# Altium footprint library OKmePCBLibrary.PcbLib: 197 footprints (part 11 of 13)
Each footprint in its own frame and in the unit in brackets; x right, y up, seen from the top. Pads: shape width x height; smd on the part's side, far side on the other; paste and mask are expansions set on the pad; w line width, h text height; cw(c..) or ccw(c..) is an arc to the next point about the centre after c.
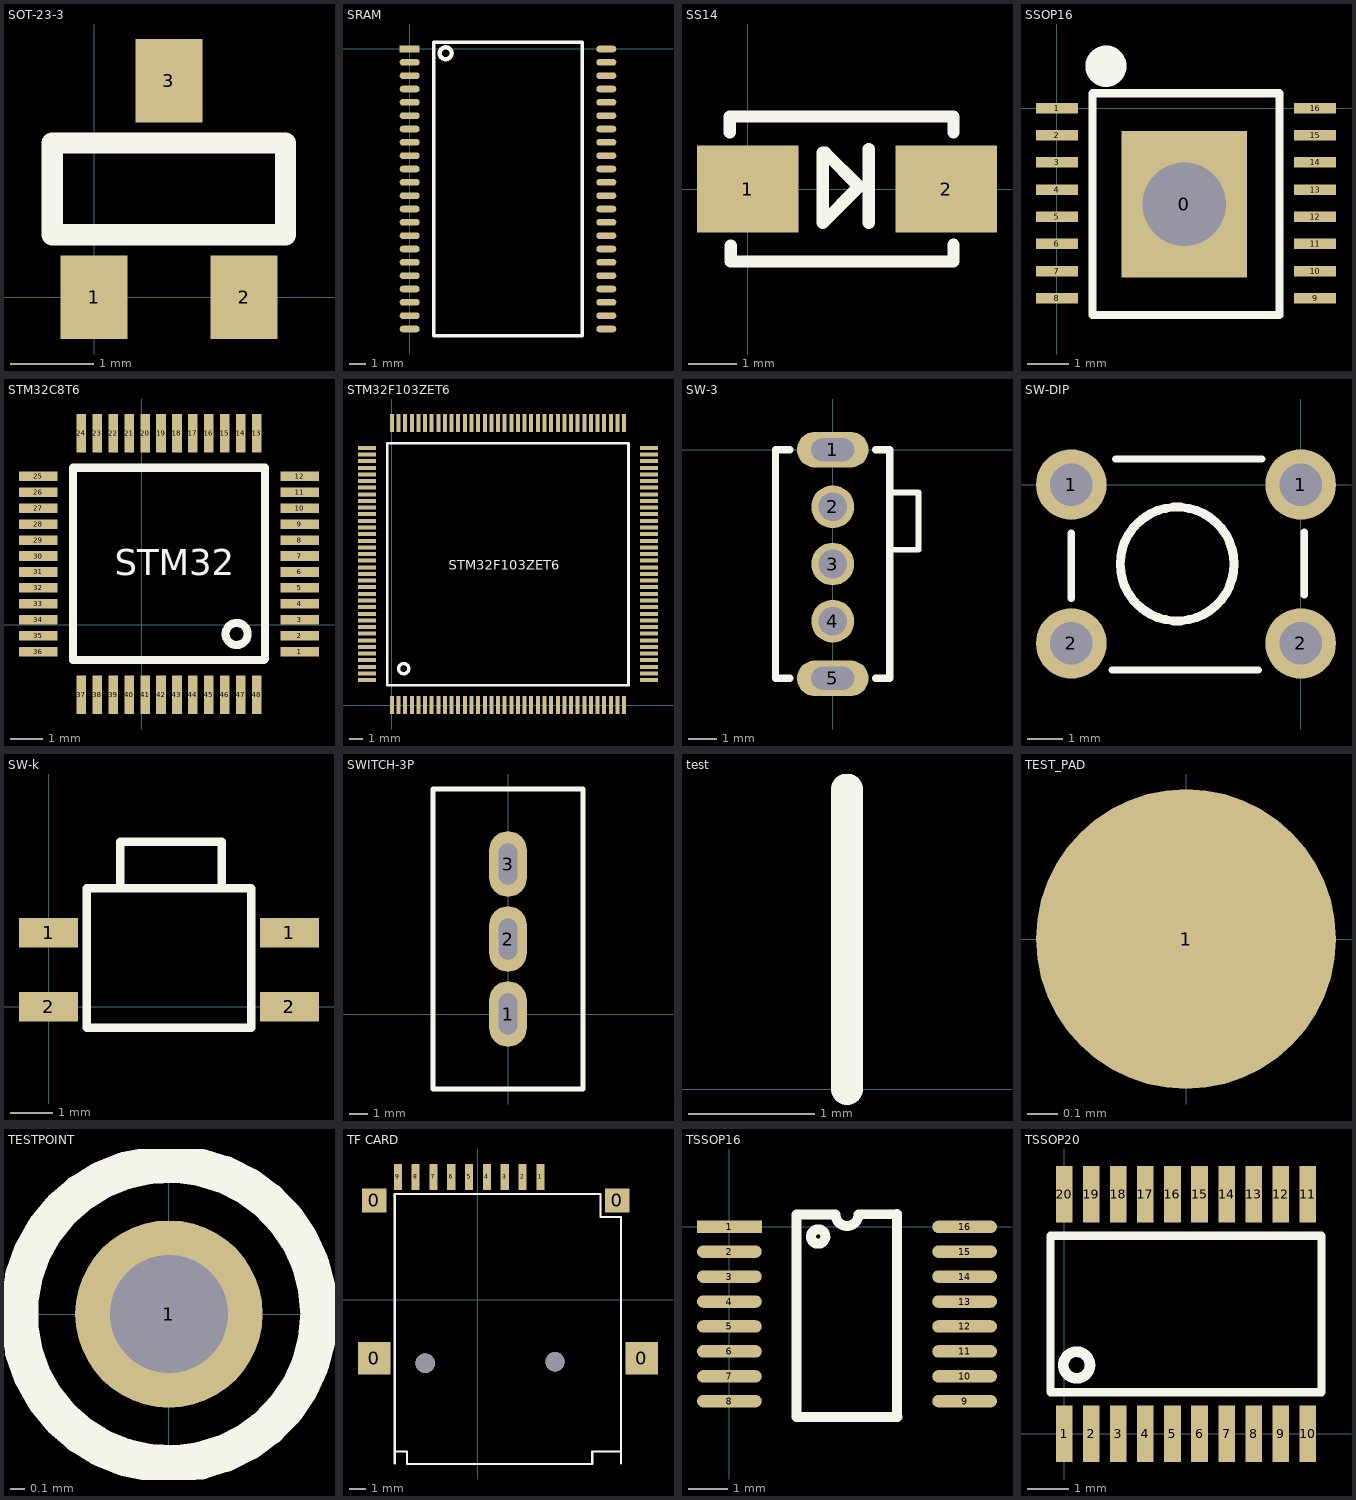
[diagram p10: the footprints below, top view; thin cyan lines are the x and y axes]

## SOT-23-3 [mm]
pads (3):
  rect 0.8x1 smd: 1(0,0) 2(1.8,0) 3(0.9,2.6)
Top Overlay:
  lines w0.254: -0.5,0.75 -0.5,1.85 2.3,1.85 2.3,0.75 -0.5,0.75

## SRAM [mm]
pads (44):
  rect 1.2x0.4 smd: 1(0,0)
  oval 1.2x0.4 smd: 2(0,-0.8) 3(0,-1.6) 4(0,-2.4) 5(0,-3.2) 6(0,-4) 7(0,-4.8) 8(0,-5.6) 9(0,-6.4) 10(0,-7.2) 11(0,-8) 12(0,-8.8) 13(0,-9.6) 14(0,-10.4) 15(0,-11.2) 16(0,-12) 17(0,-12.8) 18(0,-13.6) 19(0,-14.4) 20(0,-15.2) 21(0,-16) 22(0,-16.8) 23(11.8,-16.8) 24(11.8,-16) 25(11.8,-15.2) 26(11.8,-14.4) 27(11.8,-13.6) 28(11.8,-12.8) 29(11.8,-12) 30(11.8,-11.2) 31(11.8,-10.4) 32(11.8,-9.6) 33(11.8,-8.8) 34(11.8,-8) 35(11.8,-7.2) 36(11.8,-6.4) 37(11.8,-5.6) 38(11.8,-4.8) 39(11.8,-4) 40(11.8,-3.2) 41(11.8,-2.4) 42(11.8,-1.6) 43(11.8,-0.8) 44(11.8,0)
Top Overlay:
  circle w0.254: c2.159,-0.254 r0.359
  lines w0.2: 1.435,-17.2 1.435,0.4 10.365,0.4 10.365,-17.2 1.435,-17.2

## SS14 [mm]
pads (2):
  rect 2.1x1.8 smd: 1(0,0) 2(4.1,0)
Top Overlay:
  lines w0.254: -0.375,1.175 -0.375,1.5 4.25,1.5 4.25,1.175 ; -0.35,-1.5 -0.35,-1.175 ; -0.325,-1.5 4.25,-1.5 4.25,-1.15 ; 1.55,0.75 1.55,-0.7 2.3,0.05 ; 1.6,0.75 2.3,0.05 ; 2.5,-0.7 2.5,0.825 ; 2.3,0.05 2.3,0.05

## SSOP16 [mm]
pads (17):
  rect 3x3.5 hole 2: 0(3.05,-2.3)
  rect 1x0.25 smd: 1(0,0) 2(0,-0.65) 3(0,-1.3) 4(0,-1.95) 5(0,-2.6) 6(0,-3.25) 7(0,-3.9) 8(0,-4.55) 9(6.175,-4.55) 10(6.175,-3.9) 11(6.175,-3.25) 12(6.175,-2.6) 13(6.175,-1.95) 14(6.175,-1.3) 15(6.175,-0.65) 16(6.175,0)
Top Overlay:
  circle w0.635: c1.173,1 r0.177
  lines w0.2: 0.85,-4.95 0.85,0.35 5.325,0.35 5.325,-4.95 0.85,-4.95

## STM32C8T6 [mm]
pads (48):
  rect 1.2x0.3 smd: 1(4.95,-0.85) 2(4.95,-0.35) 3(4.95,0.15) 4(4.95,0.65) 5(4.95,1.15) 6(4.95,1.65) 7(4.95,2.15) 8(4.95,2.65) 9(4.95,3.15) 10(4.95,3.65) 11(4.95,4.15) 12(4.95,4.65) 25(-3.25,4.65) 26(-3.25,4.15) 27(-3.25,3.65) 28(-3.25,3.15) 29(-3.25,2.65) 30(-3.25,2.15) 31(-3.25,1.65) 32(-3.25,1.15) 33(-3.25,0.65) 34(-3.25,0.15) 35(-3.25,-0.35) 36(-3.25,-0.85)
  rect 0.3x1.2 smd: 13(3.6,6) 14(3.1,6) 15(2.6,6) 16(2.1,6) 17(1.6,6) 18(1.1,6) 19(0.6,6) 20(0.1,6) 21(-0.4,6) 22(-0.9,6) 23(-1.4,6) 24(-1.9,6) 37(-1.9,-2.2) 38(-1.4,-2.2) 39(-0.9,-2.2) 40(-0.4,-2.2) 41(0.1,-2.2) 42(0.6,-2.2) 43(1.1,-2.2) 44(1.6,-2.2) 45(2.1,-2.2) 46(2.6,-2.2) 47(3.1,-2.2) 48(3.6,-2.2)
Top Overlay:
  circle w0.254: c2.969,-0.291 r0.345
  lines w0.254: -2.162,-1.104 -2.162,4.916 3.858,4.916 3.858,-1.079 3.832,-1.104 -2.162,-1.104
  text "STM32" at -0.85,1.55 h0.81

## STM32F103ZET6 [mm]
pads (144):
  rect 0.3x1.35 smd: 1(0,0) 2(0.5,0) 3(1,0) 4(1.5,0) 5(2,0) 6(2.5,0) 7(3,0) 8(3.5,0) 9(4,0) 10(4.5,0) 11(5,0) 12(5.5,0) 13(6,0) 14(6.5,0) 15(7,0) 16(7.5,0) 17(8,0) 18(8.5,0) 19(9,0) 20(9.5,0) 21(10,0) 22(10.5,0) 23(11,0) 24(11.5,0) 25(12,0) 26(12.5,0) 27(13,0) 28(13.5,0) 29(14,0) 30(14.5,0) 31(15,0) 32(15.5,0) 33(16,0) 34(16.5,0) 35(17,0) 36(17.5,0) 73(17.5,21.25) 74(17,21.25) 75(16.5,21.25) 76(16,21.25) 77(15.5,21.25) 78(15,21.25) 79(14.5,21.25) 80(14,21.25) 81(13.5,21.25) 82(13,21.25) 83(12.5,21.25) 84(12,21.25) 85(11.5,21.25) 86(11,21.25) 87(10.5,21.25) 88(10,21.25) 89(9.5,21.25) 90(9,21.25) 91(8.5,21.25) 92(8,21.25) 93(7.5,21.25) 94(7,21.25) 95(6.5,21.25) 96(6,21.25) 97(5.5,21.25) 98(5,21.25) 99(4.5,21.25) 100(4,21.25) 101(3.5,21.25) 102(3,21.25) 103(2.5,21.25) 104(2,21.25) 105(1.5,21.25) 106(1,21.25) 107(0.5,21.25) 108(0,21.25)
  rect 1.35x0.3 smd: 37(19.375,1.875) 38(19.375,2.375) 39(19.375,2.875) 40(19.375,3.375) 41(19.375,3.875) 42(19.375,4.375) 43(19.375,4.875) 44(19.375,5.375) 45(19.375,5.875) 46(19.375,6.375) 47(19.375,6.875) 48(19.375,7.375) 49(19.375,7.875) 50(19.375,8.375) 51(19.375,8.875) 52(19.375,9.375) 53(19.375,9.875) 54(19.375,10.375) 55(19.375,10.875) 56(19.375,11.375) 57(19.375,11.875) 58(19.375,12.375) 59(19.375,12.875) 60(19.375,13.375) 61(19.375,13.875) 62(19.375,14.375) 63(19.375,14.875) 64(19.375,15.375) 65(19.375,15.875) 66(19.375,16.375) 67(19.375,16.875) 68(19.375,17.375) 69(19.375,17.875) 70(19.375,18.375) 71(19.375,18.875) 72(19.375,19.375) 109(-1.875,19.375) 110(-1.875,18.875) 111(-1.875,18.375) 112(-1.875,17.875) 113(-1.875,17.375) 114(-1.875,16.875) 115(-1.875,16.375) 116(-1.875,15.875) 117(-1.875,15.375) 118(-1.875,14.875) 119(-1.875,14.375) 120(-1.875,13.875) 121(-1.875,13.375) 122(-1.875,12.875) 123(-1.875,12.375) 124(-1.875,11.875) 125(-1.875,11.375) 126(-1.875,10.875) 127(-1.875,10.375) 128(-1.875,9.875) 129(-1.875,9.375) 130(-1.875,8.875) 131(-1.875,8.375) 132(-1.875,7.875) 133(-1.875,7.375) 134(-1.875,6.875) 135(-1.875,6.375) 136(-1.875,5.875) 137(-1.875,5.375) 138(-1.875,4.875) 139(-1.875,4.375) 140(-1.875,3.875) 141(-1.875,3.375) 142(-1.875,2.875) 143(-1.875,2.375) 144(-1.875,1.875)
Top Overlay:
  circle w0.254: c0.889,2.743 r0.384
  lines w0.2: -0.356,1.499 17.831,1.499 17.831,19.71 -0.356,19.71 -0.356,1.499
  text "STM32F103ZET6" at 4.3,10.2 h0.71

## SW-3 [mm]
pads (5):
  oval 2.5x1.25 hole 0.8 slot 1.5 at 0 deg: 1(0,0) 5(0,-8)
  round 1.5 hole 1: 2(0,-2) 3(0,-4) 4(0,-6)
Top Overlay:
  lines w0.2: 2,-3.5 3,-3.5 3,-1.5 2,-1.5
  lines w0.254: -1.5,-8 -2,-8 -2,0 -1.5,0 ; 1.5,-8 2,-8 2,0 1.5,0

## SW-DIP [mm]
pads (4):
  round 2 hole 1.2: 1(-6.5,0) 1(0,0) 2(-6.5,-4.5) 2(0,-4.5)
Top Overlay:
  circle w0.254: c-3.5,-2.25 r1.612
  lines w0.203: -6.5,-3.225 -6.5,-1.375 ; -5.35,-5.25 -1.2,-5.25 ; -5.25,0.725 -1.1,0.725 ; 0.1,-3.125 0.1,-1.35

## SW-k [mm]
pads (4):
  rect 1.4x0.7 smd: 1(0,1.75) 1(5.7,1.75) 2(0,0) 2(5.7,0)
Top Overlay:
  lines w0.203: 1.7,2.8 1.7,3.9 4.1,3.9 4.1,2.8 ; 0.9,-0.5 0.9,2.8 4.5,2.8 4.8,2.8 4.8,-0.5 4.5,-0.5 0.9,-0.5

## SWITCH-3P [mm]
pads (3):
  oval 2x3.5 hole 1 slot 2.2 at 90 deg: 1(0,0) 2(0,4) 3(0,8)
Top Overlay:
  lines w0.254: -4,-4 -4,12 4,12 4,-4 -4,-4

## test [mm]
Top Overlay:
  lines w0.25: 0,0 0,2.375

## TEST_PAD [mm]
pads (1):
  round 1 smd: 1(0,0)

## TESTPOINT [mm]
pads (1):
  round 1.27 hole 0.8: 1(0,0)
Top Overlay:
  circle w0.254: c0,0 r1.016

## TF CARD [mm]
pads (13):
  rect 2x2 smd: 0(-6.39,-3.632) 0(10.11,-3.632)
  rect 1.5x1.5 smd: 0(-6.39,6.118) 0(8.61,6.118)
  rect 0.5x1.6 smd: 1(3.86,7.568) 2(2.76,7.568) 3(1.66,7.568) 4(0.56,7.568) 5(-0.54,7.568) 6(-1.64,7.568) 7(-2.74,7.568) 8(-3.84,7.568) 9(-4.94,7.568)
via -3.24,-3.932 diameter 1.2 hole 1.2
via 4.76,-3.832 diameter 1.2 hole 1.2
Top Overlay:
  lines w0.127: -5.132,-10.132 -5.132,6.525 7.568,6.525 7.568,5.09 8.838,5.09 8.838,4.582 8.838,-10.132 ; -5.132,-9.388 -4.37,-9.388 -4.37,-10.15 7.06,-10.15 7.06,-9.388 8.838,-9.388

## TSSOP16 [mil]
pads (16):
  rect 65x12.5 smd: 1(0,0)
  oval 65x12.5 smd: 2(0,-25) 3(0,-50) 4(0,-75) 5(0,-100) 6(0,-125) 7(0,-150) 8(0,-175) 9(236,-175) 10(236,-150) 11(236,-125) 12(236,-100) 13(236,-75) 14(236,-50) 15(236,-25) 16(236,0)
Top Overlay:
  lines w10: 89,-17 cw(c89,-9.79) 90.02,-16.93 ; 168,-190.5 168,-166 168,13 129.54,12.5 cw(c118,12.5) 106.46,12.5 67.5,12.5 67.5,-166 67.5,-191 168.5,-191

## TSSOP20 [mm]
pads (20):
  rect 0.4x1.35 smd: 1(0,0) 2(0.65,0) 3(1.3,0) 4(1.95,0) 5(2.6,0) 6(3.25,0) 7(3.9,0) 8(4.55,0) 9(5.2,0) 10(5.85,0) 11(5.85,5.75) 12(5.2,5.75) 13(4.55,5.75) 14(3.9,5.75) 15(3.25,5.75) 16(2.6,5.75) 17(1.95,5.75) 18(1.3,5.75) 19(0.65,5.75) 20(0,5.75)
Top Overlay:
  circle w0.254: c0.3,1.65 r0.32
  lines w0.2: 6.15,1 -0.325,1 -0.325,4.75 6.175,4.75 6.175,1